# EAGLE library part LM403603PWP (library Board4You)
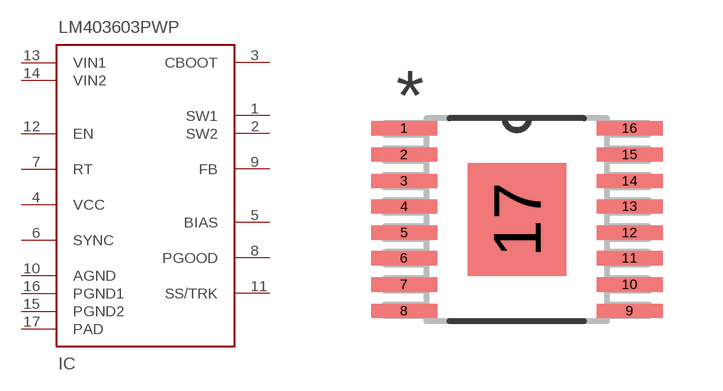
[diagram p2: symbol with the pads of LM43603; footprint LM43603]

Designator prefix IC

## LM403603PWP  [LM43603]
1  SW1
2  SW2
3  CBOOT
4  VCC
5  BIAS
6  SYNC
7  RT
8  PGOOD
9  FB
10  AGND
11  SS/TRK
12  EN
13  VIN1
14  VIN2
15  PGND2
16  PGND1
17  PAD

## Footprint LM43603 (pad centres in mm)
smd 1.651 x 0.356: 1 -2.819,2.286; 2 -2.819,1.626; 3 -2.819,0.965; 4 -2.819,0.33; 5 -2.819,-0.33; 6 -2.819,-0.965; 7 -2.819,-1.626; 8 -2.819,-2.286; 9 2.819,-2.286; 10 2.819,-1.626; 11 2.819,-0.965; 12 2.819,-0.33; 13 2.819,0.33; 14 2.819,0.965; 15 2.819,1.626; 16 2.819,2.286
smd 2.464 x 2.819: 17 0,0